# Altium footprint library Components - xh2.54 3pos.PcbLib: 1 footprints
Each footprint in its own frame and in the unit in brackets; x right, y up, seen from the top. Pads: shape width x height; smd on the part's side, far side on the other; paste and mask are expansions set on the pad; w line width, h text height; cw(c..) or ccw(c..) is an arc to the next point about the centre after c.
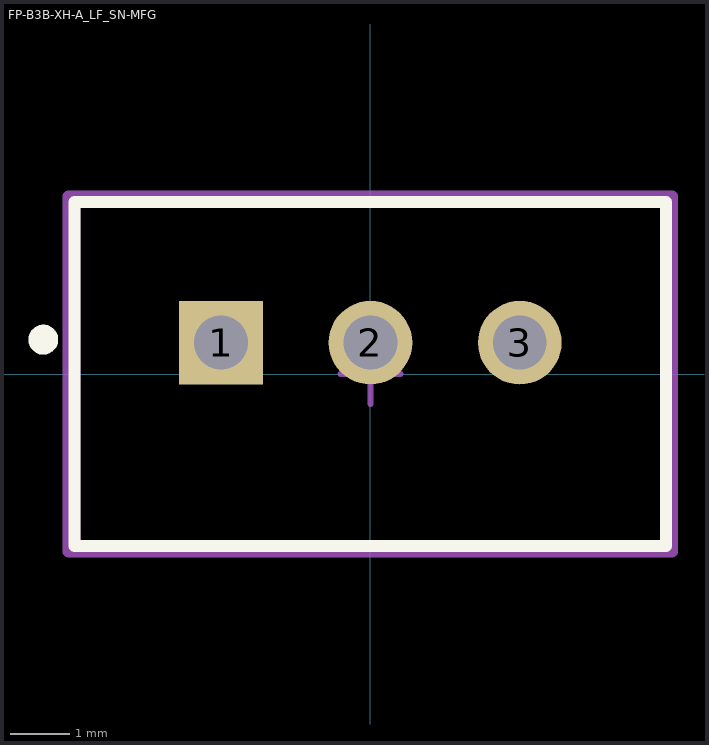
[diagram p0: the footprint, top view; thin cyan lines are the x and y axes]

## FP-B3B-XH-A_LF_SN-MFG [mm]
pads (3):
  rect 1.4x1.4 hole 0.9 paste-2539.97 mask+0: 1(-2.5,0.525)
  round 1.4 hole 0.9 paste-2539.97 mask+0: 2(0,0.525) 3(2.5,0.525)
Top Overlay:
  circle w0.25: c-5.475,0.575 r0.125
  lines w0.2: -4.95,-2.875 -4.95,2.875 4.95,2.875 4.95,-2.875 -4.95,-2.875
Top Assembly:
  lines w0.2: -5.05,-2.975 -5.05,2.975 5.05,2.975 5.05,-2.975 -5.05,-2.975
  text ".Designator" at 0,-0.001 h1
Top 3D Body:
  lines w0.2: -4.95,-2.875 -4.95,2.875 4.95,2.875 4.95,-2.875 -4.95,-2.875
Top Courtyard:
  lines w0.2: -5.05,-2.975 -5.05,2.975 5.05,2.975 5.05,-2.975 -5.05,-2.975
Top Component Center:
  lines w0.1: -0.5,0 0.5,0 ; 0,-0.5 0,0.5
3D body "Conn_JST_B3B-XH-A_LF_SN_eec.STEP": height 0.25, standoff 0, extent -5.05,-2.975 5.05,2.975